# EAGLE library part ATTINY26 (library IC - uC - AVR)
MICROCONTROLLER 2 Kbytes FLASH 128 bytes SRAM 128 bytes EEPROM USI 10-channel 10 bit ADC
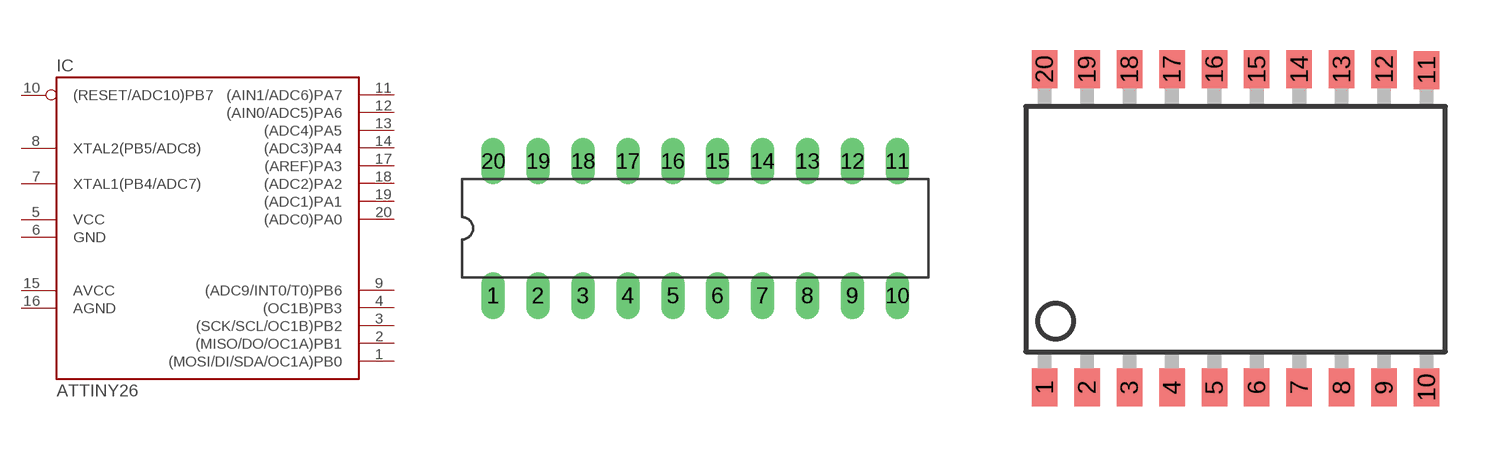
[diagram p62: symbol with the pads of DIL20; footprints DIL20, SO20L]

Designator prefix IC

## ATTINY26-16P, ATTINY26L-8P  [DIL20]
1  (MOSI/DI/SDA/OC1A)PB0
2  (MISO/DO/OC1A)PB1
3  (SCK/SCL/OC1B)PB2
4  (OC1B)PB3
5  VCC  pwr
6  GND  pwr
7  XTAL1(PB4/ADC7)
8  XTAL2(PB5/ADC8)
9  (ADC9/INT0/T0)PB6
10  (RESET/ADC10)PB7
11  (AIN1/ADC6)PA7
12  (AIN0/ADC5)PA6
13  (ADC4)PA5
14  (ADC3)PA4
15  AVCC  pwr
16  AGND  pwr
17  (AREF)PA3
18  (ADC2)PA2
19  (ADC1)PA1
20  (ADC0)PA0

## ATTINY26-16S, ATTINY26L-8S  [SO20L]
Pads as for DIL20

## Footprint DIL20 (pad centres in mm)
Dual In Line
drill 0.813 long: 1 -11.43,-3.81; 2 -8.89,-3.81; 3 -6.35,-3.81; 4 -3.81,-3.81; 5 -1.27,-3.81; 6 1.27,-3.81; 7 3.81,-3.81; 8 6.35,-3.81; 9 8.89,-3.81; 10 11.43,-3.81; 11 11.43,3.81; 12 8.89,3.81; 13 6.35,3.81; 14 3.81,3.81; 15 1.27,3.81; 16 -1.27,3.81; 17 -3.81,3.81; 18 -6.35,3.81; 19 -8.89,3.81; 20 -11.43,3.81

## Footprint SO20L (pad centres in mm)
Small Outline Package
smd 0.762 x 1.143: 1 -5.08,-5.131; 2 -3.81,-5.131; 3 -2.54,-5.131; 4 -1.27,-5.131; 5 0,-5.131; 6 1.27,-5.131; 7 2.54,-5.131; 8 3.81,-5.131; 9 5.08,-5.131; 10 6.35,-5.131; 11 6.35,4.369; 12 5.08,4.394; 13 3.81,4.394; 14 2.54,4.394; 15 1.27,4.394; 16 0,4.394; 17 -1.27,4.394; 18 -2.54,4.394; 19 -3.81,4.394; 20 -5.08,4.394